# Altium integrated library S03B-PASK-2.IntLib: 1 symbol
Pins are listed as number, name and electrical type; pins without a type are passive.

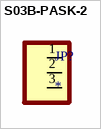
[diagram p0: symbol S03B-PASK-2]

## S03B-PASK-2
designator JP?
Connector Header Through Hole, Right Angle 3 position 0.079 (2.00mm); MF: JST Sales America Inc.; MP: S03B-PASK-2; Price: None; Package: None; Check_prices: https://www.snapeda.com/parts/S03B-PASK-2/JST%20Sales%20America%20Inc./view-part/6303260/?ref=eda; Availability: In Stock; Value: *; SnapEDA_Link: https://www.snapeda.com/parts/S03B-PASK-2/JST%20Sales%20America%20Inc./view-part/6303260/?ref=snap; Purchase-URL: https://pricing.snapeda.com/search/part/S03B-PASK-2/?ref=eda
footprint S03B-PASK-2
pins: 1, 2, 3